# EAGLE library part BLUE-PUSH-BUTTON (library ISA-Card-Edge-Conncetor-18x2P)
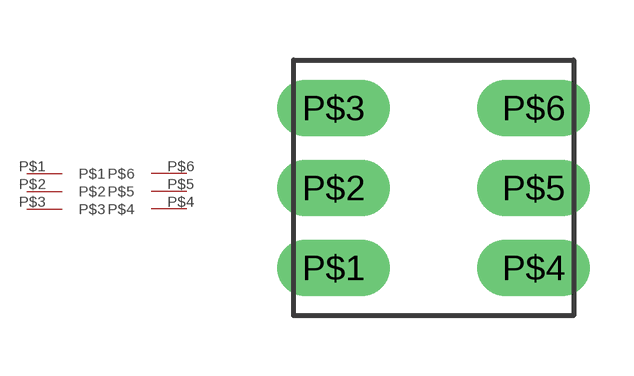
[diagram p2: symbol with the pads of BLUE-PUSH-BUTTON; footprint BLUE-PUSH-BUTTON]

Designator prefix -

## BLUE-PUSH-BUTTON  [BLUE-PUSH-BUTTON]
P$1  P$1
P$2  P$2
P$3  P$3
P$4  P$4
P$5  P$5
P$6  P$6

## Footprint BLUE-PUSH-BUTTON (pad centres in mm)
drill 0.9 long: P$1 0,0; P$2 0,2; P$3 0,4; P$4 5,0; P$5 5,2; P$6 5,4